# EAGLE library part USB (library con-usb)
USB Connectors
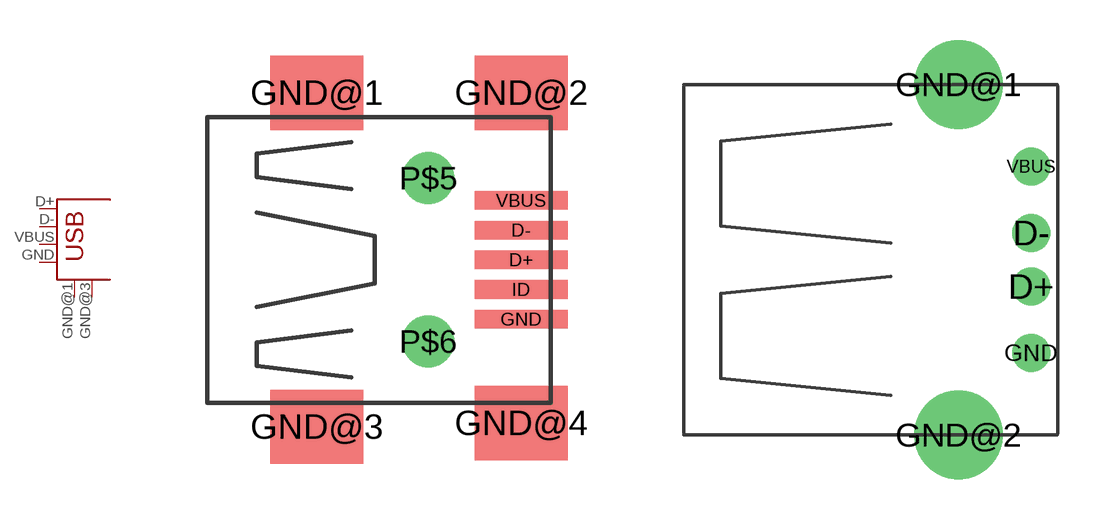
[diagram p0: symbol with the pads of USB-MB-S; footprints USB-MB-S, USB-A-H]

Designator prefix USB

## USB-MB-S  [USB-MB-S]
D+  D+
D-  D-
GND  GND
GND@1  GND
GND@3  GND
VBUS  VBUS

## USB-A-H  [USB-A-H]
D+  D+
D-  D-
GND  GND
GND@1  GND
GND@2  GND
VBUS  VBUS

## USB-B-H  [USB-B-H]
Pads as for USB-A-H

## USB-A-S  [USB-A-S]
Pads as for USB-A-H

## USB-MB-H  [USB-MB-H]
Pads as for USB-A-H

## USB-A-HU  [USB-A-HU]
Pads as for USB-MB-S

## Footprint USB-MB-S (pad centres in mm)
USB Series Mini-B Surface Mounted
smd 2.5 x 0.5: D+ 2.5,0; D- 2.5,0.8; GND 2.5,-1.6; ID 2.5,-0.8; VBUS 2.5,1.6
smd 2.5 x 2: GND@1 -3,4.5; GND@2 2.5,4.5; GND@3 -3,-4.5; GND@4 2.5,-4.4
drill 0.9 round: P$5 0,2.2; P$6 0,-2.2

## Footprint USB-A-H (pad centres in mm)
USB Series A Hole Mounted
drill 0.914 round: D+ 2.718,-1.003; D- 2.718,1.003; GND 2.718,-3.493; VBUS 2.718,3.493
drill 2.311 round: GND@1 0,6.566; GND@2 0,-6.566

## Footprint USB-B-H (pad centres in mm)
USB Series B Hole Mounted
drill 0.914 round: D+ 0,1.25; D- 1.981,1.25; GND 0,-1.25; VBUS 1.981,-1.25
drill 2.286 round: GND@1 -2.718,6.02; GND@2 -2.718,-6.02

## Footprint USB-A-S (pad centres in mm)
USB Series A Surface Mounted
smd 3 x 0.9: D+ 3.45,-1; D- 3.45,1; GND 3.45,-3; VBUS 3.45,3
drill 2.311 round: GND@1 0,6.566; GND@2 0,-6.566

## Footprint USB-MB-H (pad centres in mm)
USB Series Mini-B Hole Mounted
drill 0.8 round: D+ 5.1,0; D- 3.9,0.8; GND 5.1,-1.6; ID 3.9,-0.8; VBUS 5.1,1.6
drill 1.9 round: GND@1 0,3.65; GND@2 0,-3.65

## Footprint USB-A-HU (pad centres in mm)
USB Series A Hole Mounted Up-Right
drill 0.9 round: D+ 2.73,0; D- 4.73,0; GND 0.73,0; VBUS 6.73,0
drill 1.5 round: GND@1 0,2.72; GND@2 7,2.72; GND@3 7,-2.72; GND@4 0,-2.72